# EAGLE library part TMUX1072DGSR_LCSC (library lcsc_parts)
Description: 2 Circuit IC SWITCH 2:1 6Ω VSSOP-10-0.5mm Manufacturer: TI MPN: TMUX1072DGSR LCSC Part: C2673257 Category: Analog Switches, Multiplexers, Demultiplexers Datasheet: https://datasheet.lcsc.com/datasheet/pdf/4f8a9e9fae9b453678609d5a7dda750e.pdf?productCode=C2673257
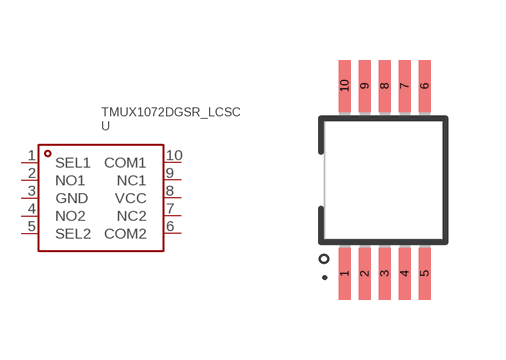
[diagram p14: symbol with the pads of VSSOP-10_L3.0-W3.0-P0.50-LS4.9-BL; footprint VSSOP-10_L3.0-W3.0-P0.50-LS4.9-BL]

Designator prefix U

## TMUX1072DGSR_LCSC (CATEGORY: Analog Switches, Multiplexers, Demultiplexers; CON: 4pF; DATASHEET: https://datasheet.lcsc.com/datasheet/pdf/4f8a9e9fae9b453678609d5a7dda750e.pdf?productCode=C2673257; DESCRIPTION: 2 Circuit IC SWITCH 2:1 6Ω VSSOP-10-0.5mm; FEATURES: Fault protection;Bidirectional analog channel;Power-off isolation; LCSC_PART: C2673257; LCSC_STOCK: 807; MANUFACTURER: TI; MPN: TMUX1072DGSR; NUMBER_OF_CHANNELS: 2; OPERATING_TEMPERATURE: -40℃~+125℃; PARTNO: TMUX1072DGSR; PRICING_1000: $0.5119/unit @ 1000; PRICING_50: $0.6771/unit @ 50; RON: 6Ω; VOLTAGE_SUPPLY: 2.3V~5.5V)  [VSSOP-10_L3.0-W3.0-P0.50-LS4.9-BL]
1  SEL1
2  NO1
3  GND
4  NO2
5  SEL2
6  COM2
7  NC2
8  VCC
9  NC1
10  COM1

## Footprint VSSOP-10_L3.0-W3.0-P0.50-LS4.9-BL (pad centres in mm)
smd 0.3 x 1.3: 1 -1,-2.35; 2 -0.5,-2.35; 3 0,-2.35; 4 0.5,-2.35; 5 1,-2.35; 6 1,2.35; 7 0.5,2.35; 8 0,2.35; 9 -0.5,2.35; 10 -1,2.35